# EAGLE library part P260_3 (library pot-tt_electronics)
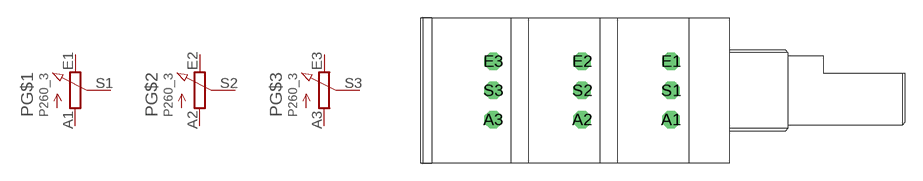
[diagram p19: symbol with the pads of P260_3; footprint P260_3]

Designator prefix P; gates G$1=POT_EU- G$2=POT_EU- G$3=POT_EU-

## P260_3  [P260_3]
A1  G$1:A  pas
A2  G$2:A  pas
A3  G$3:A  pas
E1  G$1:E  pas
E2  G$2:E  pas
E3  G$3:E  pas
S1  G$1:S  pas
S2  G$2:S  pas
S3  G$3:S  pas

## Footprint P260_3 (pad centres in mm)
drill 1 octagon: A1 -5,-2.5; A2 -12.6,-2.5; A3 -20.2,-2.5; E1 -5,2.5; E2 -12.6,2.5; E3 -20.2,2.5; S1 -5,0; S2 -12.6,0; S3 -20.2,0